# Altium schematic symbol library Schlib1.SchLib: 2 symbols
Pins are listed as number, name and electrical type; pins without a type are passive.

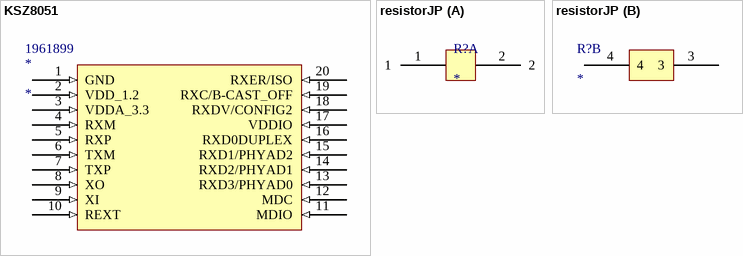
[diagram p0: symbols KSZ8051 to resistorJP]

## KSZ8051
designator *  Supplier Part Number 1: 1961899
Ethernet Transceiver, 1-Trnsvr; Manufacturer: Microchip; Manufacturer Part Number: KSZ8051MNLTR; Supplier 1: Farnell; RoHS: Yes; Category: Ethernet Interface ICs; Pricing 1: 1=1,27, 10=0,978, 100=0,884, 200=0,796, 600=0,447, 2000=0,438, 6000=0,429, 20000=0,421 (GBP); ComponentLink1URL: https://datasheet.ciiva.com:443/pdfs/VipMasterIC/IC/MCHP/MCHP-S-A0009733847/MCHP-S-A0009733847-1.pdf?src-supplier=IHS+Markit; ComponentLink1Description: https://datasheet.ciiva.com:443/pdfs/VipMasterIC/IC/MCHP/MCHP-S-A0009733847/MCHP-S-A0009733847-1.pdf?src-supplier=IHS+Markit; ComponentLink2URL: https://datasheet.ciiva.com/1150/ksz8051mnl-rnl-1150832.pdf?src-supplier=Newark; ComponentLink2Description: https://datasheet.ciiva.com/1150/ksz8051mnl-rnl-1150832.pdf?src-supplier=Newark; ComponentLink3URL: https://datasheet.ciiva.com/1712/ksz8051mnl-rnl-1712440.pdf?src-supplier=Digi-Key; ComponentLink3Description: https://datasheet.ciiva.com/1712/ksz8051mnl-rnl-1712440.pdf?src-supplier=Digi-Key; ComponentLink4URL: https://datasheet.ciiva.com/16377/an-143-16377387.pdf?src-supplier=Future+Electronics; ComponentLink4Description: https://datasheet.ciiva.com/16377/an-143-16377387.pdf?src-supplier=Future+Electronics; ComponentLink5URL: https://datasheet.ciiva.com/1712/ksz8051mnl-rnl-1712441.pdf?src-supplier=Digi-Key; ComponentLink5Description: https://datasheet.ciiva.com/1712/ksz8051mnl-rnl-1712441.pdf?src-supplier=Digi-Key; ComponentLink6URL: https://datasheet.ciiva.com/1141/ksz8051mnl-rnl-1141613.pdf?src-supplier=Element14; ComponentLink6Description: https://datasheet.ciiva.com/1141/ksz8051mnl-rnl-1141613.pdf?src-supplier=Element14; ComponentLink7URL: https://datasheet.ciiva.com/1712/ksz8051mnl-rnl-1712399.pdf?src-supplier=Digi-Key; ComponentLink7Description: https://datasheet.ciiva.com/1712/ksz8051mnl-rnl-1712399.pdf?src-supplier=Digi-Key
footprint Model Name (Footprint not found)
pins: 1 GND (in), 2 VDD_1.2 (in), 3 VDDA_3.3 (in), 4 RXM (in), 5 RXP (in), 6 TXM (in), 7 TXP (in), 8 XO (in), 9 XI (in), 10 REXT (in), 11 MDIO (in), 12 MDC (in), 13 RXD3/PHYAD0 (in), 14 RXD2/PHYAD1 (in), 15 RXD1/PHYAD2 (in), 16 RXD0DUPLEX (in), 17 VDDIO (in), 18 RXDV/CONFIG2 (in), 19 RXC/B-CAST_OFF (in), 20 RXER/ISO (in)

## resistorJP
designator R?
part A pins: 1, 2
part B pins: 3, 4